# Altium footprint library VapeixS.PcbLib: 26 footprints (part 1 of 2)
Each footprint in its own frame and in the unit in brackets; x right, y up, seen from the top. Pads: shape width x height; smd on the part's side, far side on the other; paste and mask are expansions set on the pad; w line width, h text height; cw(c..) or ccw(c..) is an arc to the next point about the centre after c.
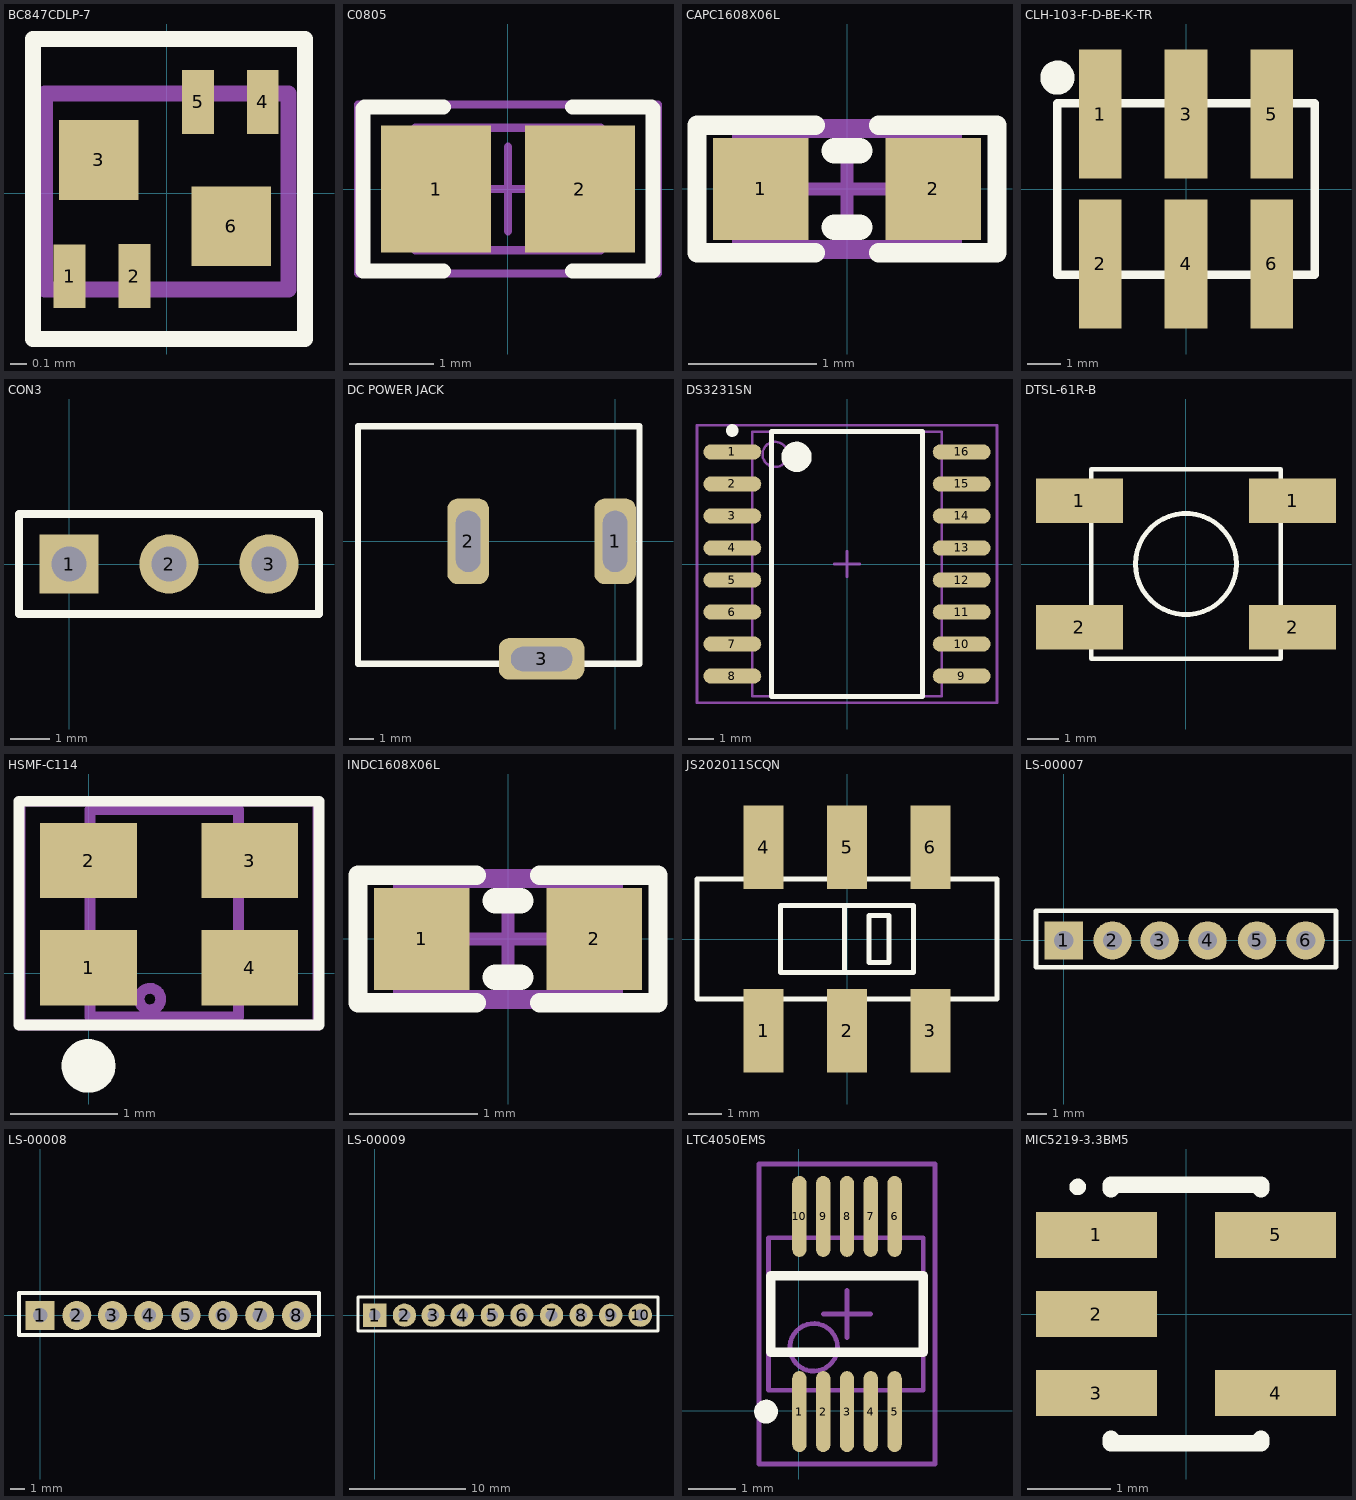
[diagram p0: the footprints below, top view; thin cyan lines are the x and y axes]

## BC847CDLP-7 [mm] "TRANS 2NPN 45V 0.1A 6DFN"
pads (6):
  rect 0.2x0.4 smd: 1(-0.609,-0.521) 2(-0.203,-0.521) 4(0.6,0.572) 5(0.196,0.572)
  rect 0.5x0.5 smd: 3(-0.426,0.208) 6(0.404,-0.208)
Top Overlay:
  lines w0.1: 0.859,0.965 -0.838,0.965 -0.838,-0.914 0.864,-0.914 ; 0.865,-0.914 0.865,0.965
Mechanical 15:
  lines w0.1: -0.763,-0.605 -0.763,0.622 0.761,0.622 0.761,-0.605 -0.763,-0.605
3D body: height 0.15, standoff 0.08, extent -0.681,0.573 -0.493,0.686
3D body: height 0.15, standoff 0.08, extent -0.366,0.573 -0.178,0.685
3D body: height 0.15, standoff 0.08, extent 0.465,-0.672 0.653,-0.56
3D body: height 0.15, standoff 0.08, extent 0.151,-0.672 0.339,-0.559
3D body: height 0.13, standoff 0, extent 0.501,0.61 0.701,0.691
3D body: height 0.13, standoff 0, extent 0.096,0.609 0.296,0.69
3D body: height 0.13, standoff 0, extent -0.303,-0.67 -0.103,-0.588
3D body: height 0.13, standoff 0, extent -0.709,-0.668 -0.509,-0.586
3D body: height 0.4, standoff 0, extent -0.787,-0.652 0.813,0.672

## C0805 [mm]
pads (2):
  rect 1.3x1.5 smd: 1(-0.85,0) 2(0.85,0)
Top Overlay:
  lines w0.178: -0.762,-0.968 -1.717,-0.968 -1.717,0.95 -1.699,0.968 -0.762,0.968 ; 0.762,-0.968 1.717,-0.968 1.717,0.95 1.699,0.968 0.762,0.968
Mechanical 5:
  lines w0.1: -1.775,-1 -1.775,1 1.775,1 1.775,-1 -1.775,-1
Mechanical 13:
  lines w0.1: -0.65,-0.725 -0.65,0.725 ; 0.65,-0.725 0.65,0.725 ; -1.1,-0.725 -1.1,0.725 1.1,0.725 1.1,-0.725 -1.1,-0.725
Mechanical 15:
  lines w0.1: -0.5,0 0.5,0 ; 0,-0.5 0,0.5 ; -1.775,-1 -1.775,1 1.775,1 1.775,-1 -1.775,-1
3D body "SW3dPS-0805 SMD Capacitor.STEP": height 0.78, standoff 0, extent -0.95,-0.625 1.05,0.625

## CAPC1608X06L [mm]
pads (2):
  rect 0.75x0.8 smd: 1(-0.675,0) 2(0.675,0)
Top Overlay:
  lines w0.152: -0.25,-0.5 -1.175,-0.5 -1.175,0.5 -0.25,0.5 ; 0.25,-0.5 1.175,-0.5 1.175,0.5 0.25,0.5
  lines w0.2: -0.1,-0.3 0.1,-0.3 ; -0.1,0.3 0.1,0.3
Mechanical 13:
  lines w0.1: -0.85,-0.45 -0.85,0.45 0.85,0.45 0.85,-0.45 -0.85,-0.45
Mechanical 15:
  lines w0.1: -0.45,0 0.45,0 ; 0,-0.45 0,0.45 ; -1.175,-0.5 1.175,-0.5 1.175,0.5 -1.175,0.5 -1.175,-0.5
3D body "User Library-Chip Capacitor 0603.step": height 0.8, standoff 0, extent -0.8,-0.43 0.8,0.43

## CLH-103-F-D-BE-K-TR [mm] "SAMTEC - CLH-103-F-D-BE-K-TR - SOCKET, 2.54MM, SMT, 6WAY"
pads (6):
  rect 1.27x3.81 smd: 1(-2.54,2.234) 2(-2.54,-2.211) 3(0,2.234) 4(0,-2.211) 5(2.54,2.234) 6(2.54,-2.211)
Top Overlay:
  circle w0.508: c-3.81,3.314 r0.254
  lines w0.254: -3.81,-2.528 3.81,-2.528 3.81,2.552 -3.81,2.552 -3.81,-2.528
3D body "User Library-CLH-107-F-D-BE 2x3.STEP": height 3.56, standoff -0.05, extent -3.81,-3.543 3.81,3.567

## CON3 [mm]
pads (3):
  rect 1.5x1.5 hole 0.9: 1(0,0)
  round 1.5 hole 0.9: 2(2.54,0) 3(5.08,0)
Top Overlay:
  lines w0.2: -1.27,-1.27 -1.27,1.27 6.35,1.27 6.35,-1.27 -1.27,-1.27
3D body "User Library-Header_Male_3Pin.STEP": height 8.54, standoff -3, extent -1.27,-1.245 6.35,1.245

## DC POWER JACK [mm] "Adafruit Accessories 2.1mm DC Barrel Jack Breadboard Friendly"
pads (3):
  rrect50% 1.7x3.5 hole 1 slot 2.5 at 90 deg: 1(0,0) 2(-6,0)
  rrect50% 3.5x1.7 hole 1 slot 2.5 at 0 deg: 3(-3,-4.8)
Top Overlay:
  lines w0.254: -10.5,-5 1,-5 1,4.7 -10.5,4.7 -10.5,-5
3D body "User Library-DC_Jack-1.STEP": height 11, standoff -3.5, extent -13.6,-4.9 0.8,4.6

## DS3231SN [mm] "IC RTC CLK/CALENDAR I2C 16-SOIC"
pads (16):
  oval 2.3x0.6 smd: 1(-4.563,4.445) 2(-4.563,3.175) 3(-4.563,1.905) 4(-4.563,0.635) 5(-4.563,-0.635) 6(-4.563,-1.905) 7(-4.563,-3.175) 8(-4.563,-4.445) 9(4.537,-4.445) 10(4.537,-3.175) 11(4.537,-1.905) 12(4.537,-0.635) 13(4.537,0.635) 14(4.537,1.905) 15(4.537,3.175) 16(4.537,4.445)
Top Overlay:
  circle w0.6: c-2.013,4.25 r0.3
  circle w0.25: c-4.563,5.295 r0.125
  lines w0.2: -3.013,-5.25 2.987,-5.25 2.987,5.25 -3.013,5.25 -3.013,-5.25
Mechanical 13:
  circle w0.1: c-2.863,4.35 r0.5
  lines w0.1: -3.763,-5.25 3.737,-5.25 3.737,5.25 -3.763,5.25 -3.763,-5.25
Mechanical 15:
  lines w0.1: -0.513,0 0.487,0 ; -0.013,-0.5 -0.013,0.5 ; -5.963,-5.5 5.937,-5.5 5.937,5.5 -5.963,5.5 -5.963,-5.5
3D body "User Library-SO-16W.STEP": height 2.48, standoff 0, extent -5.168,-5.165 5.142,5.165

## DTSL-61R-B [mm] "MULTICOMP - DTSL-61R-B - TACTILE SWITCH, SPNO, SMD"
pads (4):
  rect 2.75x1.4 smd: 1(-3.375,2) 1(3.375,2) 2(-3.375,-2) 2(3.375,-2)
Top Overlay:
  circle w0.152: c0,0 r1.601
  lines w0.152: -3,-3 -3,3 3,3 3,-3 -3,-3
3D body "Switch tact 6x6mm.stp": height 3.1, standoff 0, extent -4,-3 4,3.3

## HSMF-C114 [mm] "LED RGB DIFFUSED 0606 SMD"
pads (4):
  rect 0.9x0.7 smd: 1(0,0.051) 2(0,1.049) 3(1.5,1.049) 4(1.5,0.051)
Top Overlay:
  circle w0.3: c0,-0.864 r0.1
  lines w0.1: -0.648,-0.483 -0.648,1.6 2.146,1.6 2.146,-0.483 -0.648,-0.483
Mechanical 13:
  circle w0.1: c0.572,-0.241 r0.1
  lines w0.1: 0.013,-0.406 1.397,-0.406 1.397,1.524 0.013,1.524 0.013,-0.406
Mechanical 15:
  lines w0.1: -0.635,-0.483 2.134,-0.483 2.134,1.6 -0.635,1.6 -0.635,-0.457
3D body "User Library-HSMF-C114.STEP": height 0.34, standoff -0.01, extent -0.089,-0.217 1.511,1.283

## INDC1608X06L [mm]
pads (2):
  rect 0.75x0.8 smd: 1(-0.675,0) 2(0.675,0)
Top Overlay:
  lines w0.152: -0.25,-0.5 -1.175,-0.5 -1.175,0.5 -0.25,0.5 ; 0.25,-0.5 1.175,-0.5 1.175,0.5 0.25,0.5
  lines w0.2: -0.1,-0.3 0.1,-0.3 ; -0.1,0.3 0.1,0.3
Mechanical 13:
  lines w0.1: -0.85,-0.45 0.85,-0.45 0.85,0.45 -0.85,0.45 -0.85,-0.45
Mechanical 15:
  lines w0.1: -0.45,0 0.45,0 ; 0,-0.45 0,0.45 ; -1.175,-0.5 -1.175,0.5 1.175,0.5 1.175,-0.5 -1.175,-0.5
3D body "User Library-Chip Inductor.step": height 0.8, standoff 0, extent -0.8,-0.475 0.8,0.475

## JS202011SCQN [mm] "SWITCH SLIDE DPDT 300MA 6V"
pads (6):
  rect 1.2x2.5 smd: 1(-2.5,-2.75) 2(0,-2.75) 3(2.5,-2.75) 4(-2.5,2.75) 5(0,2.75) 6(2.5,2.75)
Top Overlay:
  lines w0.152: -0.08,-1 -0.08,1 ; 1.24,0.7 0.66,0.7 0.66,-0.7 1.26,-0.7 1.26,0.7 ; -4.5,-1.8 4.5,-1.8 4.5,1.8 -4.5,1.8 -4.5,-1.8 ; -2,-1 2,-1 2,1 -2,1 -2,-1
3D body: height 3.48, standoff 3, extent -2,1 2,1.8
3D body: height 3.48, standoff 3, extent -2,-1.8 2,-1
3D body: height 3.48, standoff 3, extent 2,-1.8 4.5,1.8
3D body: height 3.5, standoff 3.48, extent 2,-1 4.5,1
3D body: height 3.5, standoff 3.48, extent -4.5,-1.8 4.5,-1
3D body: height 3.5, standoff 3.48, extent -4.5,-1 -2,1
3D body: height 0.9, standoff 0, extent 2.2,-1.825 2.8,-1.675
3D body: height 0.15, standoff 0, extent 2.2,-3.75 2.8,-1.8
3D body: height 0.15, standoff 0, extent -0.3,-3.75 0.3,-1.8
3D body: height 0.9, standoff 0, extent -0.3,-1.825 0.3,-1.675
3D body: height 0.15, standoff 0, extent -2.8,-3.75 -2.2,-1.8
3D body: height 0.9, standoff 0, extent -2.8,-1.825 -2.2,-1.675
3D body: height 0.15, standoff 0, extent -4.2,1.2 -3.9,1.5
3D body: height 0.15, standoff 0, extent 3.9,1.2 4.2,1.5
3D body: height 0.15, standoff 0, extent 3.9,-1.5 4.2,-1.2
3D body: height 0.15, standoff 0, extent -4.2,-1.5 -3.9,-1.2
3D body: height 3, standoff 0.9, extent -4.5,-1.8 4.5,1.8
3D body: height 3.05, standoff 3, extent -2,-1 2,1
3D body: height 5.5, standoff 1.75, extent -0.08,-1 2,1
3D body: height 3.48, standoff 3, extent -4.5,-1.8 -2,1.8
3D body: height 3.5, standoff 2.63, extent 4.5,-1.2 4.52,1.2
3D body: height 2.63, standoff 1.75, extent 4.5,-1.7 4.52,1.7
3D body: height 2.63, standoff 1.75, extent -4.52,-1.7 -4.5,1.7
3D body: height 3.5, standoff 2.63, extent -4.52,-1.2 -4.5,1.2
3D body: height 0.9, standoff 0, extent 2.2,1.675 2.8,1.825
3D body: height 0.15, standoff 0, extent 2.2,1.8 2.8,3.75
3D body: height 0.9, standoff 0, extent -0.3,1.675 0.3,1.825
3D body: height 0.15, standoff 0, extent -0.3,1.8 0.3,3.75
3D body: height 3.5, standoff 3.48, extent -4.5,1 4.5,1.8
3D body: height 0.15, standoff 0, extent -2.8,1.8 -2.2,3.75
3D body: height 0.9, standoff 0, extent -2.8,1.675 -2.2,1.825
3D body: height 0.9, standoff 0.15, extent -4.3,-1.6 4.3,1.675

## LS-00007 [mm] "Arduino Female Stackable Header - 6 pin(4 pack)"
pads (6):
  rect 2x2 hole 1: 1(0,0)
  round 2 hole 1: 2(2.54,0) 3(5,0) 4(7.5,0) 5(10.08,0) 6(12.62,0)
Top Overlay:
  lines w0.254: -1.45,-1.4 14.2,-1.4 14.2,1.55 -1.45,1.55 -1.45,-1.4
3D body "User Library-SIL_Socket06_.STEP": height 8.5, standoff -10.46, extent -1.27,-1.19 13.97,1.35

## LS-00008 [mm] "Arduino Femal e Stackable Headers - 8 pin (4 pack)"
pads (8):
  rect 2x2 hole 1: 1(0,0)
  round 2 hole 1: 2(2.54,0) 3(5,0) 4(7.5,0) 5(10.08,0) 6(12.62,0) 7(15.16,0) 8(17.7,0)
Top Overlay:
  lines w0.254: -1.45,-1.35 19.25,-1.35 19.25,1.55 -1.45,1.55 -1.45,-1.35
3D body "User Library-SIL_Socket08_.STEP": height 8.5, standoff -10.46, extent -1.27,-1.19 19.05,1.35

## LS-00009 [mm] "Arduino Female Stackable Header - 10 pin (4 pack)"
pads (10):
  rect 2x2 hole 1: 1(0,0)
  round 2 hole 1: 2(2.54,0) 3(5,0) 4(7.5,0) 5(10.08,0) 6(12.62,0) 7(15.16,0) 8(17.7,0) 9(20.24,0) 10(22.78,0)
Top Overlay:
  lines w0.254: -1.45,-1.35 -1.45,1.55 24.3,1.55 24.3,-1.35 -1.45,-1.35
3D body "User Library-SIL_Socket10_.STEP": height 8.5, standoff -10.46, extent -1.27,-1.19 24.13,1.35

## LTC4050EMS [mm] "IC BATT CHRG CNTRL LI-ION 10MSOP"
pads (10):
  oval 0.3x1.7 smd: 1(0.016,-0.018) 2(0.516,-0.018) 3(1.016,-0.018) 4(1.516,-0.018) 5(2.016,-0.018) 6(2.016,4.082) 7(1.516,4.082) 8(1.016,4.082) 9(0.516,4.082) 10(0.016,4.082)
Top Overlay:
  circle w0.25: c-0.684,-0.018 r0.125
  lines w0.2: -0.584,1.232 2.616,1.232 2.616,2.832 -0.584,2.832 -0.584,1.232
Mechanical 13:
  circle w0.1: c0.316,1.332 r0.5
  lines w0.1: -0.635,0.432 2.616,0.432 2.616,3.632 -0.635,3.632 -0.635,0.432
Mechanical 15:
  lines w0.1: 0.516,2.032 1.516,2.032 ; 1.016,1.532 1.016,2.532 ; -0.834,-1.118 2.866,-1.118 2.866,5.182 -0.834,5.182 -0.834,-1.118
3D body "User Library-MSOP-10-1.STEP": height 1.05, standoff 0, extent -0.484,-0.482 2.516,4.546

## MIC5219-3.3BM5 [mm] "IC REG LDO 3.3V 0.5A SOT23-5"
pads (5):
  rect 1.45x0.55 smd: 1(-1.075,0.95) 2(-1.075,0) 3(-1.075,-0.95) 4(1.075,-0.95) 5(1.075,0.95)
Top Overlay:
  circle w0.1: c-1.3,1.525 r0.05
  lines w0.2: -0.9,-1.5 -0.9,-1.55 0.9,-1.55 0.9,-1.5 ; -0.9,1.5 -0.9,1.55 0.9,1.55 0.9,1.5
3D body "SW3DPS-SOT-23-5-DEFAULT.STEP": height 1.05, standoff -0.05, extent -1.237,-1.525 1.263,1.475